# Altium schematic symbol library LM2940IMPX-10_NOPB.SchLib: 1 symbol
Pins are listed as number, name and electrical type; pins without a type are passive.

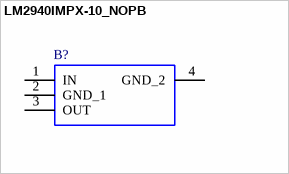
[diagram p0: symbol LM2940IMPX-10_NOPB]

## LM2940IMPX-10_NOPB
designator B?
LDO Voltage Regulators 1A Low Dropout Regulator 4-SOT-223 -40 to 85; Manufacturer_Name: Texas Instruments; Manufacturer_Part_Number: LM2940IMPX-10/NOPB; Geometry.Height: 1.8mm; Mouser Part Number: 926-LM2940IMPX10NOPB; Mouser Price/Stock: https://www.mouser.co.uk/ProductDetail/Texas-Instruments/LM2940IMPX-10-NOPB?qs=X1J7HmVL2ZGaWCR2un6ouA%3D%3D; Datasheet Link: http://www.ti.com/lit/ds/symlink/lm2940c.pdf
footprint SOT230P700X180-4N
pins: 1 IN, 2 GND_1, 3 OUT, 4 GND_2